# EAGLE library part PICOBLADE-6 (library fruit-parts)
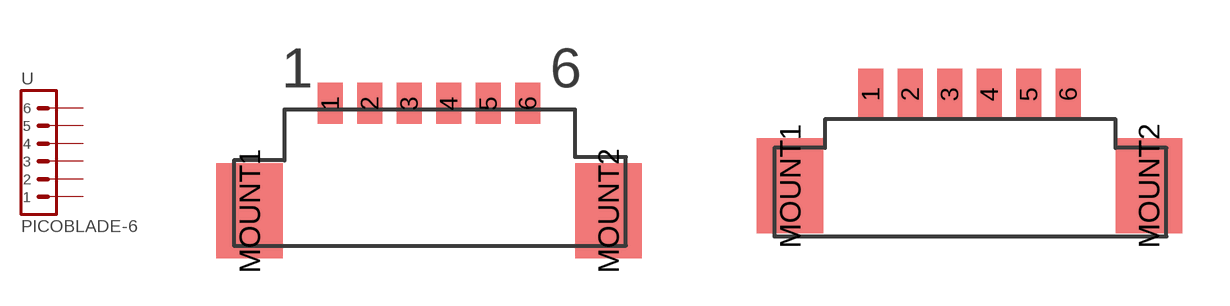
[diagram p9: symbol with the pads of PICOBLADE_6-MOLEX_53398-0671; footprints PICOBLADE_6-MOLEX_53398-0671, PICOBLADE_6-MOLEX_53261-0671]

Designator prefix -

## PICOBLADE-6-MOLEX_53398-0671 (MANUFACTURER: MOLEX; MPN: 53398-0671; OC_FARNEL: 1125368; PACKAGE: SMT, TOP)  [PICOBLADE_6-MOLEX_53398-0671]
1  1  pas
2  2  pas
3  3  pas
4  4  pas
5  5  pas
6  6  pas

## PICOBLADE-6-MOLEX_53261-0671 (MANUFACTURER: Molex; MPN: 53261-0671; OC_FARNEL: 1125375; PACKAGE: SMT, SIDE)  [PICOBLADE_6-MOLEX_53261-0671]
Pads as for PICOBLADE_6-MOLEX_53398-0671

## Footprint PICOBLADE_6-MOLEX_53398-0671 (pad centres in mm)
smd 0.8 x 1.3: 1 2.55,3.4; 2 3.8,3.4; 3 5.05,3.4; 4 6.3,3.4; 5 7.55,3.4; 6 8.8,3.4
smd 2.1 x 3: MOUNT1 0,0; MOUNT2 11.35,0

## Footprint PICOBLADE_6-MOLEX_53261-0671 (pad centres in mm)
smd 0.8 x 1.6: 1 -2.77,1.73; 2 -1.52,1.73; 3 -0.27,1.73; 4 0.98,1.73; 5 2.23,1.73; 6 3.48,1.73
smd 2.1 x 3: MOUNT1 -5.32,-1.17; MOUNT2 6.03,-1.17